# Altium schematic symbol library 24AA02UID-ISN.SchLib: 1 symbol
Pins are listed as number, name and electrical type; pins without a type are passive.

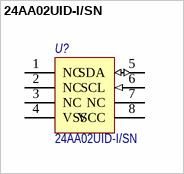
[diagram p0: symbol 24AA02UID-I/SN]

## 24AA02UID-I/SN
designator U?
I2C Serial EEPROMs with Unique 32-bit Serial Number; Назначение: I2C Serial EEPROMs with 32-bit UID; Потребление, Вт: 0.005; Наименование: 24AA02UID-I/SN
footprint SOIC-8
pins: 1 NC, 2 NC, 3 NC, 4 VSS, 5 SDA (io), 6 SCL (in), 7 NC, 8 VCC